# Altium footprint library SS-Mini2P.PcbLib: 1 footprints
Each footprint in its own frame and in the unit in brackets; x right, y up, seen from the top. Pads: shape width x height; smd on the part's side, far side on the other; paste and mask are expansions set on the pad; w line width, h text height; cw(c..) or ccw(c..) is an arc to the next point about the centre after c.
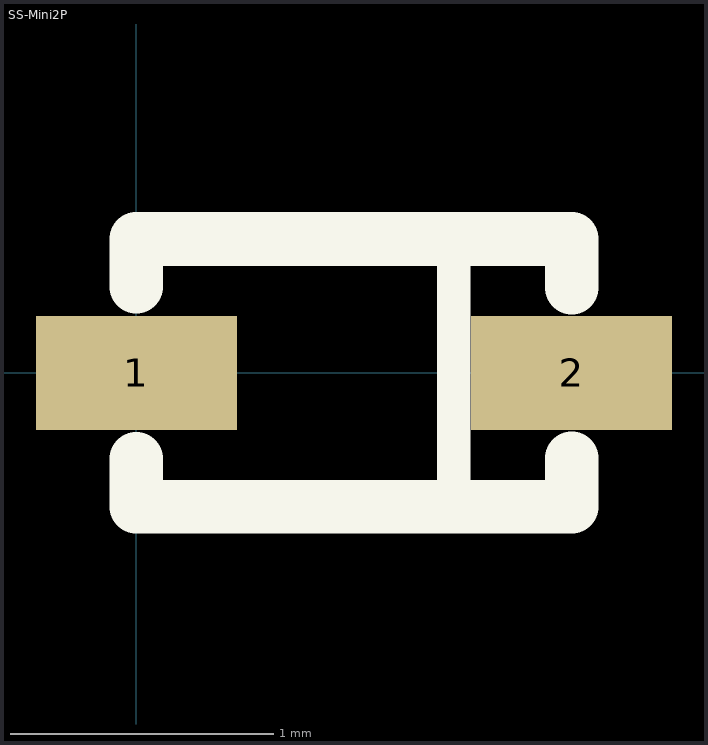
[diagram p0: the footprint, top view; thin cyan lines are the x and y axes]

## SS-Mini2P [mil]
pads (2):
  rect 30x17 smd: 1(0,0) 2(65,0)
TopOverlay:
  lines w5: 47.4,-20.32 47.4,19.68
  lines w8: 0.01,-12.79 0,-20 65,-20 65,-12.76 ; 0.01,12.86 0,20 65,20 65,12.76
Mechanical4:
  text ".025" at 0,0 h1
  text ".040" at 65,0 h1